# Altium footprint library PcbLibHGCD.PcbLib: 18 footprints (part 1 of 2)
Each footprint in its own frame and in the unit in brackets; x right, y up, seen from the top. Pads: shape width x height; smd on the part's side, far side on the other; paste and mask are expansions set on the pad; w line width, h text height; cw(c..) or ccw(c..) is an arc to the next point about the centre after c.
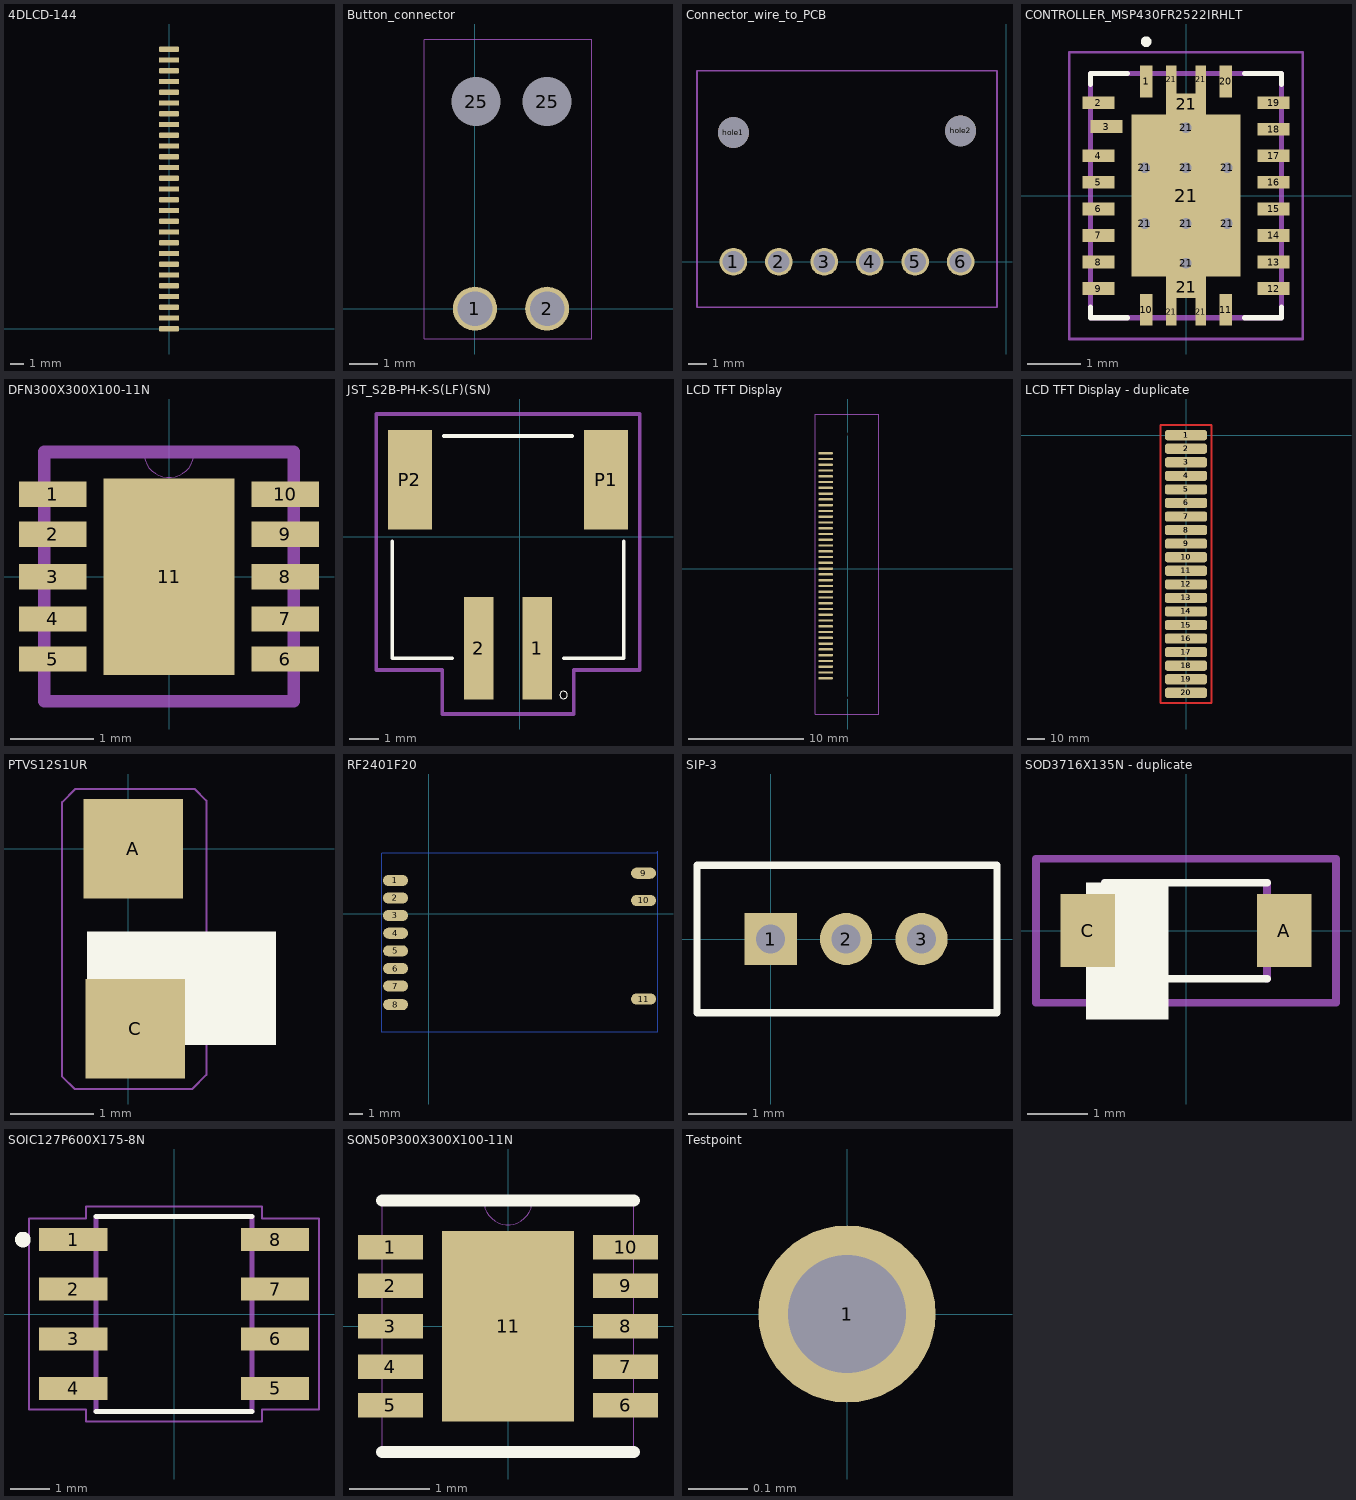
[diagram p0: the footprints below, top view; thin cyan lines are the x and y axes]

## 4DLCD-144 [mm] "display"
pads (27):
  rrect50% 1.524x0.4 all layers, no hole: 1(0,0) 2(0,0.8) 3(0,1.6) 4(0,2.4) 5(0,3.2) 6(0,4) 7(0,4.8) 8(0,5.6) 9(0,6.4) 10(0,7.2) 11(0,8) 12(0,8.8) 13(0,9.6) 14(0,10.4) 15(0,11.2) 16(0,12) 17(0,12.8) 18(0,13.6) 19(0,14.4) 20(0,15.2) 21(0,16) 22(0,16.8) 23(0,17.6) 24(0,18.4) 25(0,19.2) 26(0,20) 27(0,20.8)

## Button_connector [mm]
pads (4):
  round 1.524 hole 1.2: 1(0,0) 2(2.5,0)
  round 1.524 hole 1.7: 25(0.04,7.18) 25(2.5,7.18)
Mechanical 1:
  lines w0.025: -1.76,-1.05 4.05,-1.05 4.05,9.35 -1.54,9.35 -1.74,9.35 -1.76,9.33 -1.76,9.13 -1.76,-1.05

## Connector_wire_to_PCB [mm]
pads (8):
  round 1.524 hole 1.2: 1(-15,0) 2(-12.5,0) 3(-10,0) 4(-7.5,0) 5(-5,0) 6(-2.5,0)
  round 1.7 hole 1.7: hole1(-15,7.1) hole2(-2.5,7.2)
Top Layer:
  lines w0.254: -15,0 -15,0
Mechanical 1:
  lines w0.1: -17,-2.5 -17,10.5 -0.5,10.5 -0.5,-2.5 -17,-2.5

## CONTROLLER_MSP430FR2522IRHLT [mm]
pads (35):
  rect 0.24x0.6 smd: 1(-0.75,2.15) 10(-0.75,-2.15) 11(0.75,-2.15) 20(0.75,2.15)
  rect 0.6x0.24 smd: 2(-1.65,1.75) 3(-1.5,1.3) 4(-1.65,0.75) 5(-1.65,0.25) 6(-1.65,-0.25) 7(-1.65,-0.75) 8(-1.65,-1.25) 9(-1.65,-1.75) 12(1.65,-1.75) 13(1.65,-1.25) 14(1.65,-0.75) 15(1.65,-0.25) 16(1.65,0.25) 17(1.65,0.75) 18(1.65,1.25) 19(1.65,1.75)
  round 0.3 hole 0.2: 21(-0.775,-0.525) 21(-0.775,0.525) 21(0,-1.275) 21(0,-0.525) 21(0,0.525) 21(0,1.275) 21(0.775,-0.525) 21(0.775,0.525)
  rect 0.2x0.525 smd: 21(-0.275,-2.187) 21(-0.275,2.187) 21(0.275,-2.187) 21(0.275,2.187)
  rect 0.75x0.4 smd: 21(0,-1.725) 21(0,1.725)
  rect 2.05x3.05 smd: 21(0,0)
Top Overlay:
  circle w0.1: c-0.75,2.9 r0.05
  lines w0.1: -1.8,-2.1 -1.8,-2.3 -1.1,-2.3 ; -1.8,2.1 -1.8,2.3 -1.1,2.3 ; 1.1,-2.3 1.8,-2.3 1.8,-2.1 ; 1.1,2.3 1.8,2.3 1.8,2.1
Top Paste:
  region: -0.375,-1.675 0.375,-1.675 0.375,-1.926 -0.375,-1.926
  region: -0.375,1.925 0.375,1.925 0.375,1.677 -0.375,1.677
  region: 0.105,-0.425 1.025,-0.425 1.025,0.425 0.105,0.425
  region: -1.025,-0.425 -0.105,-0.425 -0.105,0.425 -1.025,0.425
  region: 0.105,-1.49 1.025,-1.49 1.025,-0.64 0.105,-0.64
  region: -1.025,-1.49 -0.105,-1.49 -0.105,-0.64 -1.025,-0.64
  region: 0.105,0.64 1.025,0.64 1.025,1.49 0.105,1.49
  region: -1.025,0.64 -0.105,0.64 -0.105,1.49 -1.025,1.49
Mechanical 1:
  lines w0.05: -2.2,-2.7 -2.2,2.7 2.2,2.7 2.2,-2.7 -2.2,-2.7
  lines w0.1: -1.8,-2.3 1.8,-2.3 1.8,2.3 -1.8,2.3 -1.8,-2.3

## DFN300X300X100-11N [mil]
pads (11):
  rect 32x12 smd: 1(-55,39) 2(-55,20) 3(-55,0) 4(-55,-20) 5(-55,-39) 6(55,-39) 7(55,-20) 8(55,0) 9(55,20) 10(55,39)
  rect 62x93 smd: 11(0,0)
Mechanical 1:
  lines w0: -12,59 ccw(c0,59) 12,59
  lines w6: -59,-59 -59,59 -12,59 12,59 59,59 59,-59 -59,-59

## JST_S2B-PH-K-S(LF)(SN) [mm]
pads (4):
  rect 1x3.5 smd: 1(0.6,-3.8) 2(-1.4,-3.8)
  rect 1.5x3.4 smd: P1(2.95,1.95) P2(-3.75,1.95)
Top Overlay:
  circle w0: c1.5,-5.4 r0.127
  lines w0.127: -4.35,-0.15 -4.35,-4.15 -2.3,-4.15 ; -2.6,3.45 1.8,3.45 ; 1.5,-4.15 3.55,-4.15 3.55,-0.15
Mechanical 1:
  lines w0.127: -4.9,-4.55 -4.9,4.2 4.1,4.2 4.1,-4.55 1.85,-4.55 1.85,-6.05 -2.65,-6.05 -2.65,-4.55 -4.9,-4.55

## LCD TFT Display [mm]
pads (42):
  rrect50% 1.25x0.2 all layers, no hole: 1(-1.9,10) 2(-1.9,9.5) 3(-1.9,9) 4(-1.9,8.5) 5(-1.9,8) 6(-1.9,7.5) 7(-1.9,7) 8(-1.9,6.5) 9(-1.9,6) 10(-1.9,5.5) 11(-1.9,5) 12(-1.9,4.5) 13(-1.9,4) 14(-1.9,3.5) 15(-1.9,3) 16(-1.9,2.5) 17(-1.9,2) 18(-1.9,1.5) 19(-1.9,1) 20(-1.9,0.5) 21(-1.9,0) 22(-1.9,-0.5) 23(-1.9,-1) 24(-1.9,-1.5) 25(-1.9,-2) 26(-1.9,-2.5) 27(-1.9,-3) 28(-1.9,-3.5) 29(-1.9,-4) 30(-1.9,-4.5) 31(-1.9,-5) 32(-1.9,-5.5) 33(-1.9,-6) 34(-1.9,-6.5) 35(-1.9,-7) 36(-1.9,-7.5) 37(-1.9,-8) 38(-1.9,-8.5) 39(-1.9,-9) 40(-1.9,-9.5)
  rect 3x2 on Top Solder: SMD1(0.3,11.6) SMD2(0.4,-11.1)
Mechanical 1:
  lines w0.025: -2.8,-12.6 -2.8,13.4 2.7,13.4 2.7,-12.6 -2.8,-12.6

## LCD TFT Display - duplicate [mm]
pads (60):
  rrect50% 25x6 hole 1 mask+1: 1(0,0) 1(0,0) 1(0,0) 2(0,-8) 2(0,-8) 2(0,-8) 3(0,-16) 3(0,-16) 3(0,-16) 4(0,-24) 4(0,-24) 4(0,-24) 5(0,-32) 5(0,-32) 5(0,-32) 6(0,-40) 6(0,-40) 6(0,-40) 7(0,-48) 7(0,-48) 7(0,-48) 8(0,-56) 8(0,-56) 8(0,-56) 9(0,-64) 9(0,-64) 9(0,-64) 10(0,-72) 10(0,-72) 10(0,-72) 11(0,-80) 11(0,-80) 11(0,-80) 12(0,-88) 12(0,-88) 12(0,-88) 13(0,-96) 13(0,-96) 13(0,-96) 14(0,-104) 14(0,-104) 14(0,-104) 15(0,-112) 15(0,-112) 15(0,-112) 16(0,-120) 16(0,-120) 16(0,-120) 17(0,-128) 17(0,-128) 17(0,-128) 18(0,-136) 18(0,-136) 18(0,-136) 19(0,-144) 19(0,-144) 19(0,-144) 20(0,-152) 20(0,-152) 20(0,-152)
Top Layer:
  lines w1: -15,-158 -15,6 ; -15,-158 15,-158 ; -15,-158 15,-158 ; -15,-158 -15,6 ; -15,-158 15,-158 ; -15,-158 -15,6 ; -15,6 15,6 ; -15,6 15,6 ; -15,6 15,6 ; 15,-158 15,6 ; 15,-158 15,6 ; 15,-158 15,6

## PCBComponent_1 [mm]

## PTVS12S1UR [mm]
pads (2):
  rect 1.2x1.2 smd: A(0.06,0) C(0.08,-2.174)
Top Layer:
  lines w0.025: 0,-2.17 0.08,-2.174 ; 0.03,0 0.06,0
Top Overlay:
  region: -0.5,-2.363 -0.5,-1 1.779,-1 1.779,-2.363
Mechanical 1:
  lines w0.025: -0.8,-2.75 -0.65,-2.9 0.77,-2.9 0.94,-2.73 0.94,0.58 0.8,0.72 -0.64,0.72 -0.8,0.56 -0.8,-2.75

## RF2401F20 [mm]
pads (11):
  oval 1.8x0.8 smd: 1(-2.4,2.4) 2(-2.4,1.14) 3(-2.4,-0.12) 4(-2.39,-1.4) 5(-2.39,-2.67) 6(-2.39,-3.94) 7(-2.39,-5.2) 8(-2.39,-6.54) 9(15.46,2.92) 10(15.46,0.96) 11(15.46,-6.14)
Top Layer:
  region: -5.1,4.9
  lines w0.025: -2.4,2.09 -2.4,2.4 ; -2.4,2.163 -2.4,2.48
Bottom Layer:
  lines w0.025: -3.4,-8.5 16.5,-8.5 16.5,4.5 16.4,4.4 -3.4,4.4 ; -3.39,-8.53 -3.39,4.37

## SIP-3 [mm]
pads (3):
  rect 0.9x0.9 hole 0.5: 1(0,0)
  round 0.9 hole 0.5: 2(1.3,0) 3(2.6,0)
Top Overlay:
  lines w0.127: -1.27,-1.27 -1.27,1.27 3.9,1.27 3.9,-1.27 -1.27,-1.27

## SOD3716X135N - duplicate [mm]
pads (2):
  rect 0.91x1.22 smd: A(1.635,0) C(-1.635,0)
Top Overlay:
  region: -1.663,0.8 -0.3,0.8 -0.3,-1.479 -1.663,-1.479
  lines w0.127: -1.35,-0.8 1.35,-0.8 ; -1.35,0.8 1.35,0.8
Mechanical 1:
  lines w0.127: -1.35,-0.8 -1.35,0.8 ; 1.35,-0.8 1.35,0.8 ; -2.5,-1.2 -2.5,1.2 2.5,1.2 2.5,-1.2 -2.5,-1.2

## SOIC127P600X175-8N [mm]
pads (8):
  rect 1.75x0.59 smd: 1(-2.585,1.905) 2(-2.585,0.635) 3(-2.585,-0.635) 4(-2.585,-1.905) 5(2.585,-1.905) 6(2.585,-0.635) 7(2.585,0.635) 8(2.585,1.905)
Top Overlay:
  circle w0.2: c-3.869,1.905 r0.1
  lines w0.127: -2,-2.5 2,-2.5 ; -2,2.5 2,2.5
Mechanical 1:
  lines w0.05: -3.71,-2.45 -2.25,-2.45 -2.25,-2.75 2.25,-2.75 2.25,-2.45 3.71,-2.45 3.71,2.45 2.25,2.45 2.25,2.75 -2.25,2.75 -2.25,2.45 -3.71,2.45 -3.71,-2.45
  lines w0.127: -2,-2.5 -2,2.5 2,2.5 2,-2.5 -2,-2.5

## SON50P300X300X100-11N [mil]
pads (11):
  rect 32x12 smd: 1(-58,39) 2(-58,20) 3(-58,0) 4(-58,-20) 5(-58,-39) 6(58,-39) 7(58,-20) 8(58,0) 9(58,20) 10(58,39)
  rect 65x94 smd: 11(0,0)
Top Overlay:
  lines w6: -62,-62 62,-62 ; -62,62 62,62
Mechanical 1:
  lines w0: -12,62 ccw(c0,62) 12,62 ; -12,62 -62,62 -62,-62 62,-62 62,62 12,62 ; -12,62 12,62

## Testpoint [mm]
pads (1):
  round 0.3 hole 0.2: 1(0,0)